# EAGLE library part AU6475-SQFP (library alcor)
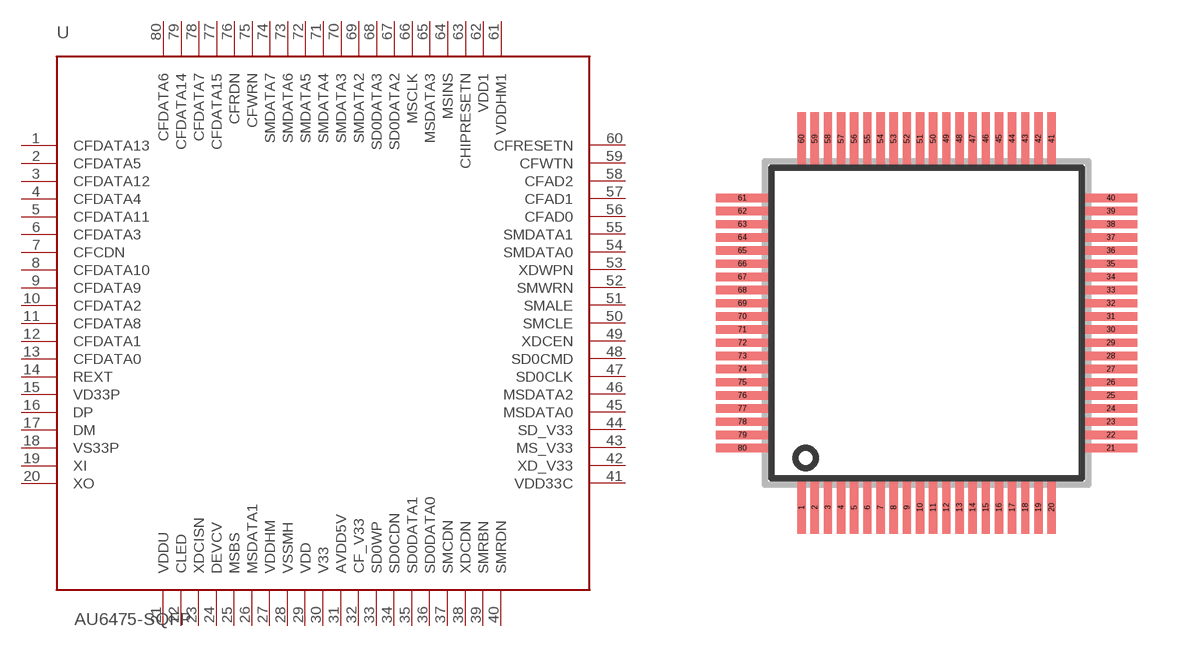
[diagram p0: symbol with the pads of SQFP80; footprint SQFP80]

Designator prefix -

## AU6475-SQFP  [SQFP80]
1  CFDATA13
2  CFDATA5
3  CFDATA12
4  CFDATA4
5  CFDATA11
6  CFDATA3
7  CFCDN  in
8  CFDATA10
9  CFDATA9
10  CFDATA2
11  CFDATA8
12  CFDATA1
13  CFDATA0
14  REXT
15  VD33P  pwr
16  DP
17  DM
18  VS33P  pwr
19  XI  in
20  XO  out
21  VDDU  pwr
22  CLED  out
23  XDCISN  in
24  DEVCV  in
25  MSBS  out
26  MSDATA1
27  VDDHM  pwr
28  VSSMH  pwr
29  VDD  pwr
30  V33  pwr
31  AVDD5V  pwr
32  CF_V33  pwr
33  SD0WP  in
34  SD0CDN  in
35  SD0DATA1
36  SD0DATA0
37  SMCDN  in
38  XDCDN  in
39  SMRBN  in
40  SMRDN  out
41  VDD33C  pwr
42  XD_V33  pwr
43  MS_V33  pwr
44  SD_V33  pwr
45  MSDATA0
46  MSDATA2
47  SD0CLK  out
48  SD0CMD
49  XDCEN  out
50  SMCLE  out
51  SMALE  out
52  SMWRN  out
53  XDWPN
54  SMDATA0
55  SMDATA1
56  CFAD0  out
57  CFAD1  out
58  CFAD2  out
59  CFWTN  in
60  CFRESETN  out
61  VDDHM1  pwr
62  VDD1  pwr
63  CHIPRESETN  in
64  MSINS  in
65  MSDATA3
66  MSCLK  out
67  SD0DATA2
68  SD0DATA3
69  SMDATA2
70  SMDATA3
71  SMDATA4
72  SMDATA5
73  SMDATA6
74  SMDATA7
75  CFWRN  out
76  CFRDN  out
77  CFDATA15
78  CFDATA7
79  CFDATA14
80  CFDATA6

## Footprint SQFP80 (pad centres in mm)
smd 0.25 x 1.6: 1 -3.8,-5.6; 2 -3.4,-5.6; 3 -3,-5.6; 4 -2.6,-5.6; 5 -2.2,-5.6; 6 -1.8,-5.6; 7 -1.4,-5.6; 8 -1,-5.6; 9 -0.6,-5.6; 10 -0.2,-5.6; 11 0.2,-5.6; 12 0.6,-5.6; 13 1,-5.6; 14 1.4,-5.6; 15 1.8,-5.6; 16 2.2,-5.6; 17 2.6,-5.6; 18 3,-5.6; 19 3.4,-5.6; 20 3.8,-5.6; 41 3.8,5.6; 42 3.4,5.6; 43 3,5.6; 44 2.6,5.6; 45 2.2,5.6; 46 1.8,5.6; 47 1.4,5.6; 48 1,5.6; 49 0.6,5.6; 50 0.2,5.6; 51 -0.2,5.6; 52 -0.6,5.6; 53 -1,5.6; 54 -1.4,5.6; 55 -1.8,5.6; 56 -2.2,5.6; 57 -2.6,5.6; 58 -3,5.6; 59 -3.4,5.6; 60 -3.8,5.6
smd 1.6 x 0.25: 21 5.6,-3.8; 22 5.6,-3.4; 23 5.6,-3; 24 5.6,-2.6; 25 5.6,-2.2; 26 5.6,-1.8; 27 5.6,-1.4; 28 5.6,-1; 29 5.6,-0.6; 30 5.6,-0.2; 31 5.6,0.2; 32 5.6,0.6; 33 5.6,1; 34 5.6,1.4; 35 5.6,1.8; 36 5.6,2.2; 37 5.6,2.6; 38 5.6,3; 39 5.6,3.4; 40 5.6,3.8; 61 -5.6,3.8; 62 -5.6,3.4; 63 -5.6,3; 64 -5.6,2.6; 65 -5.6,2.2; 66 -5.6,1.8; 67 -5.6,1.4; 68 -5.6,1; 69 -5.6,0.6; 70 -5.6,0.2; 71 -5.6,-0.2; 72 -5.6,-0.6; 73 -5.6,-1; 74 -5.6,-1.4; 75 -5.6,-1.8; 76 -5.6,-2.2; 77 -5.6,-2.6; 78 -5.6,-3; 79 -5.6,-3.4; 80 -5.6,-3.8